# EAGLE library part TTGO_LORA32_V2.1_1.6 (library ipas)
.
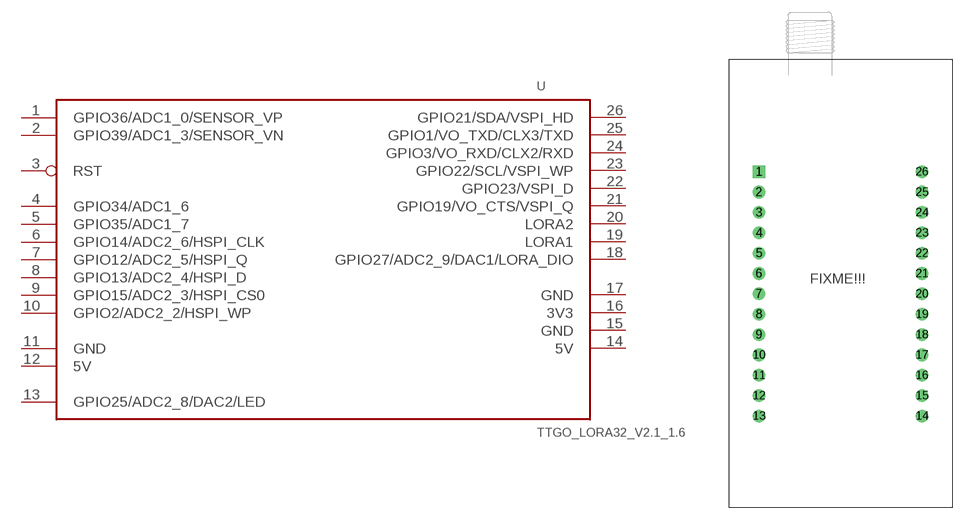
[diagram p37: symbol with the pads of TTGO_LORA32_V2.1_1.6; footprint TTGO_LORA32_V2.1_1.6]

Designator prefix U

## TTGO_LORA32_V2.1_1.6  [TTGO_LORA32_V2.1_1.6]
1  GPIO36/ADC1_0/SENSOR_VP
2  GPIO39/ADC1_3/SENSOR_VN
3  RST  in
4  GPIO34/ADC1_6
5  GPIO35/ADC1_7
6  GPIO14/ADC2_6/HSPI_CLK
7  GPIO12/ADC2_5/HSPI_Q
8  GPIO13/ADC2_4/HSPI_D
9  GPIO15/ADC2_3/HSPI_CS0
10  GPIO2/ADC2_2/HSPI_WP
11  GND  pwr
12  5V  pwr
13  GPIO25/ADC2_8/DAC2/LED
14  5V  pwr
15  GND  pwr
16  3V3  pwr
17  GND  pwr
18  GPIO27/ADC2_9/DAC1/LORA_DIO
19  LORA1
20  LORA2
21  GPIO19/VO_CTS/VSPI_Q
22  GPIO23/VSPI_D
23  GPIO22/SCL/VSPI_WP
24  GPIO3/VO_RXD/CLX2/RXD
25  GPIO1/VO_TXD/CLX3/TXD
26  GPIO21/SDA/VSPI_HD

## Footprint TTGO_LORA32_V2.1_1.6 (pad centres in mm)
drill 1.016 pad 1.575 square: 1 3.81,52.07
drill 1.016 pad 1.575: 2 3.81,49.53; 3 3.81,46.99; 4 3.81,44.45; 5 3.81,41.91; 6 3.81,39.37; 7 3.81,36.83; 8 3.81,34.29; 9 3.81,31.75; 10 3.81,29.21; 11 3.81,26.67; 12 3.81,24.13; 13 3.81,21.59; 14 24.13,21.59; 15 24.13,24.13; 16 24.13,26.67; 17 24.13,29.21; 18 24.13,31.75; 19 24.13,34.29; 20 24.13,36.83; 21 24.13,39.37; 22 24.13,41.91; 23 24.13,44.45; 24 24.13,46.99; 25 24.13,49.53; 26 24.13,52.07